# EAGLE library part TC4426 (library parts)
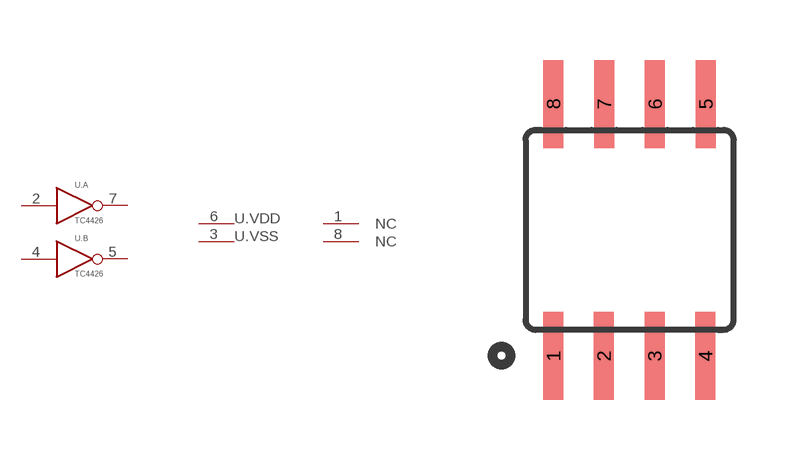
[diagram p0: symbol with the pads of SOIC8; footprint SOIC8]

Designator prefix U; gates .A=INV .B=INV .VDD=.VDD .VSS=.VSS G$1=NC G$2=NC

## TC4426  [SOIC8]
1  G$1:NC  nc
2  .A:I  in
3  .VSS:VSS  pwr
4  .B:I  in
5  .B:O  out
6  .VDD:VDD  pwr
7  .A:O  out
8  G$2:NC  nc

## Footprint SOIC8 (pad centres in mm)
Wide Plastic Gull Wing Small Outline Package
smd 0.5 x 2.2: 1 -1.905,-3.154; 2 -0.645,-3.154; 3 0.625,-3.154; 4 1.895,-3.154; 5 1.905,3.154; 6 0.635,3.154; 7 -0.635,3.154; 8 -1.905,3.154